# EAGLE library part H110*NL (library Pulse)
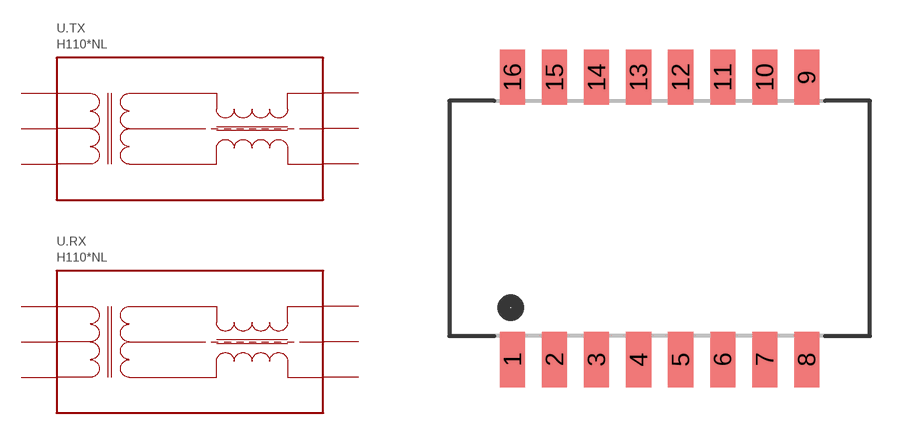
[diagram p0: symbol with the pads of SOP16; footprint SOP16]

Designator prefix U; gates .TX=H110XNL .RX=H110XNL

## H1100NL, H1101NL, H1102NL  [SOP16]
1  .TX:D+
2  .TX:CT
3  .TX:D-
6  .RX:D+
7  .RX:CT
8  .RX:D-
9  .RX:X-
10  .RX:CM
11  .RX:X+
14  .TX:X-
15  .TX:CM
16  .TX:X+

## Footprint SOP16 (pad centres in mm)
smd 0.76 x 1.67: 1 -4.445,-4.265; 2 -3.175,-4.265; 3 -1.905,-4.265; 4 -0.635,-4.265; 5 0.635,-4.265; 6 1.905,-4.265; 7 3.175,-4.265; 8 4.445,-4.265; 9 4.445,4.265; 10 3.175,4.265; 11 1.905,4.265; 12 0.635,4.265; 13 -0.635,4.265; 14 -1.905,4.265; 15 -3.175,4.265; 16 -4.445,4.265